# Altium integrated library Resistors$.IntLib: 1243 symbols (part 5 of 7)
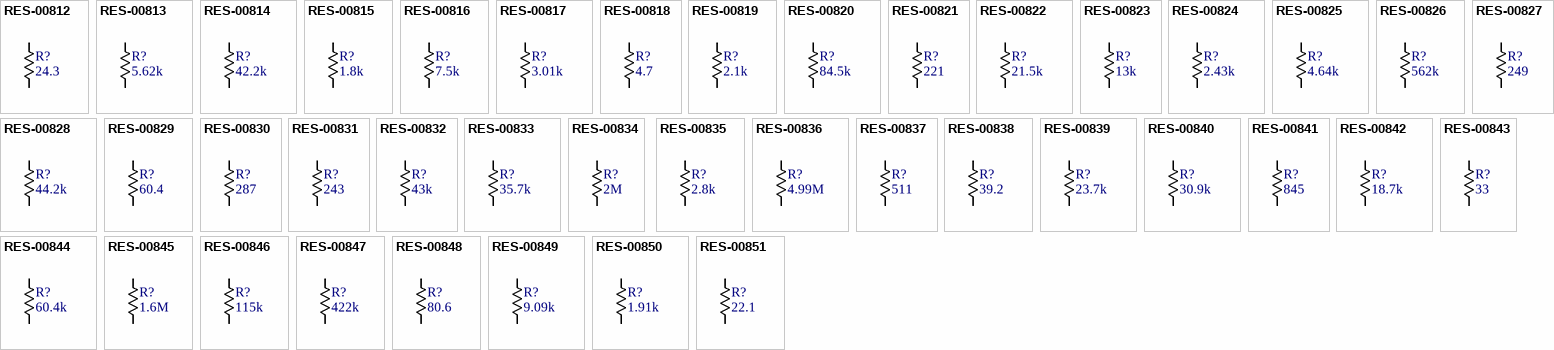
[diagram p36: symbols RES-00812 to RES-00851]

## RES-00824
designator R?, comment 2.43k
RES SMD 2.43K OHM 1% 1/10W 0603; Part Number: RES-00824; Manufacturer: Vishay Dale; Manufacturer PN: CRCW06032K43FKEA; Resistance: 2.43k; Tolerance: ±1%; Power Rating: 1/10W; Cost: 0.1
footprint chip_0603
pins: 1, 2

## RES-00825
designator R?, comment 4.64k
RES SMD 4.64K OHM 1% 1/10W 0603; Part Number: RES-00825; Manufacturer: Vishay Dale; Manufacturer PN: CRCW06034K64FKEA; Resistance: 4.64k; Tolerance: ±1%; Power Rating: 1/10W; Cost: 0.1
footprint chip_0603
pins: 1, 2

## RES-00826
designator R?, comment 562k
RES SMD 562K OHM 1% 1/10W 0603; Part Number: RES-00826; Manufacturer: Vishay Dale; Manufacturer PN: CRCW0603562KFKEA; Resistance: 562k; Tolerance: ±1%; Power Rating: 1/10W; Cost: 0.1
footprint chip_0603
pins: 1, 2

## RES-00827
designator R?, comment 249
RES SMD 249 OHM 1% 1/10W 0603; Part Number: RES-00827; Manufacturer: Vishay Dale; Manufacturer PN: CRCW0603249RFKEA; Resistance: 249; Tolerance: ±1%; Power Rating: 1/10W; Cost: 0.1
footprint chip_0603
pins: 1, 2

## RES-00828
designator R?, comment 44.2k
RES SMD 44.2K OHM 1% 1/10W 0603; Part Number: RES-00828; Manufacturer: Vishay Dale; Manufacturer PN: CRCW060344K2FKEA; Resistance: 44.2k; Tolerance: ±1%; Power Rating: 1/10W; Cost: 0.1
footprint chip_0603
pins: 1, 2

## RES-00829
designator R?, comment 60.4
RES SMD 60.4 OHM 1% 1/10W 0603; Part Number: RES-00829; Manufacturer: Vishay Dale; Manufacturer PN: CRCW060360R4FKEA; Resistance: 60.4; Tolerance: ±1%; Power Rating: 1/10W; Cost: 0.1
footprint chip_0603
pins: 1, 2

## RES-00830
designator R?, comment 287
RES SMD 287 OHM 1% 1/10W 0603; Part Number: RES-00830; Manufacturer: Vishay Dale; Manufacturer PN: CRCW0603287RFKEA; Resistance: 287; Tolerance: ±1%; Power Rating: 1/10W; Cost: 0.1
footprint chip_0603
pins: 1, 2

## RES-00831
designator R?, comment 243
RES SMD 243 OHM 1% 1/10W 0603; Part Number: RES-00831; Manufacturer: Vishay Dale; Manufacturer PN: CRCW0603243RFKEA; Resistance: 243; Tolerance: ±1%; Power Rating: 1/10W; Cost: 0.1
footprint chip_0603
pins: 1, 2

## RES-00832
designator R?, comment 43k
RES SMD 43K OHM 1% 1/10W 0603; Part Number: RES-00832; Manufacturer: Vishay Dale; Manufacturer PN: CRCW060343K0FKEA; Resistance: 43k; Tolerance: ±1%; Power Rating: 1/10W; Cost: 0.1
footprint chip_0603
pins: 1, 2

## RES-00833
designator R?, comment 35.7k
RES SMD 35.7K OHM 1% 1/10W 0603; Part Number: RES-00833; Manufacturer: Vishay Dale; Manufacturer PN: CRCW060335K7FKEA; Resistance: 35.7k; Tolerance: ±1%; Power Rating: 1/10W; Cost: 0.1
footprint chip_0603
pins: 1, 2

## RES-00834
designator R?, comment 2M
RES SMD 2M OHM 1% 1/10W 0603; Part Number: RES-00834; Manufacturer: Vishay Dale; Manufacturer PN: CRCW06032M00FKEA; Resistance: 2M; Tolerance: ±1%; Power Rating: 1/10W; Cost: 0.1
footprint chip_0603
pins: 1, 2

## RES-00835
designator R?, comment 2.8k
RES SMD 2.8K OHM 1% 1/10W 0603; Part Number: RES-00835; Manufacturer: Vishay Dale; Manufacturer PN: CRCW06032K80FKEA; Resistance: 2.8k; Tolerance: ±1%; Power Rating: 1/10W; Cost: 0.1
footprint chip_0603
pins: 1, 2

## RES-00836
designator R?, comment 4.99M
RES SMD 4.99M OHM 1% 1/10W 0603; Part Number: RES-00836; Manufacturer: Vishay Dale; Manufacturer PN: CRCW06034M99FKEA; Resistance: 4.99M; Tolerance: ±1%; Power Rating: 1/10W; Cost: 0.1
footprint chip_0603
pins: 1, 2

## RES-00837
designator R?, comment 511
RES SMD 511 OHM 1% 1/10W 0603; Part Number: RES-00837; Manufacturer: Vishay Dale; Manufacturer PN: CRCW0603511RFKEA; Resistance: 511; Tolerance: ±1%; Power Rating: 1/10W; Cost: 0.1
footprint chip_0603
pins: 1, 2

## RES-00838
designator R?, comment 39.2
RES SMD 39.2 OHM 1% 1/10W 0603; Part Number: RES-00838; Manufacturer: Vishay Dale; Manufacturer PN: CRCW060339R2FKEA; Resistance: 39.2; Tolerance: ±1%; Power Rating: 1/10W; Cost: 0.1
footprint chip_0603
pins: 1, 2

## RES-00839
designator R?, comment 23.7k
RES SMD 23.7K OHM 1% 1/10W 0603; Part Number: RES-00839; Manufacturer: Vishay Dale; Manufacturer PN: CRCW060323K7FKEA; Resistance: 23.7k; Tolerance: ±1%; Power Rating: 1/10W; Cost: 0.1
footprint chip_0603
pins: 1, 2

## RES-00840
designator R?, comment 30.9k
RES SMD 30.9K OHM 1% 1/10W 0603; Part Number: RES-00840; Manufacturer: Vishay Dale; Manufacturer PN: CRCW060330K9FKEA; Resistance: 30.9k; Tolerance: ±1%; Power Rating: 1/10W; Cost: 0.1
footprint chip_0603
pins: 1, 2

## RES-00841
designator R?, comment 845
RES SMD 845 OHM 1% 1/10W 0603; Part Number: RES-00841; Manufacturer: Vishay Dale; Manufacturer PN: CRCW0603845RFKEA; Resistance: 845; Tolerance: ±1%; Power Rating: 1/10W; Cost: 0.1
footprint chip_0603
pins: 1, 2

## RES-00842
designator R?, comment 18.7k
RES SMD 18.7K OHM 1% 1/10W 0603; Part Number: RES-00842; Manufacturer: Vishay Dale; Manufacturer PN: CRCW060318K7FKEA; Resistance: 18.7k; Tolerance: ±1%; Power Rating: 1/10W; Cost: 0.1
footprint chip_0603
pins: 1, 2

## RES-00843
designator R?, comment 33
RES SMD 33 OHM 1% 1/10W 0603; Part Number: RES-00843; Manufacturer: Vishay Dale; Manufacturer PN: CRCW060333R0FKEA; Resistance: 33; Tolerance: ±1%; Power Rating: 1/10W; Cost: 0.1
footprint chip_0603
pins: 1, 2

## RES-00844
designator R?, comment 60.4k
RES SMD 60.4K OHM 1% 1/10W 0603; Part Number: RES-00844; Manufacturer: Vishay Dale; Manufacturer PN: CRCW060360K4FKEA; Resistance: 60.4k; Tolerance: ±1%; Power Rating: 1/10W; Cost: 0.1
footprint chip_0603
pins: 1, 2

## RES-00845
designator R?, comment 1.6M
RES SMD 1.6M OHM 1% 1/10W 0603; Part Number: RES-00845; Manufacturer: Vishay Dale; Manufacturer PN: CRCW06031M60FKEA; Resistance: 1.6M; Tolerance: ±1%; Power Rating: 1/10W; Cost: 0.1
footprint chip_0603
pins: 1, 2

## RES-00846
designator R?, comment 115k
RES SMD 115K OHM 1% 1/10W 0603; Part Number: RES-00846; Manufacturer: Vishay Dale; Manufacturer PN: CRCW0603115KFKEA; Resistance: 115k; Tolerance: ±1%; Power Rating: 1/10W; Cost: 0.1
footprint chip_0603
pins: 1, 2

## RES-00847
designator R?, comment 422k
RES SMD 422K OHM 1% 1/10W 0603; Part Number: RES-00847; Manufacturer: Vishay Dale; Manufacturer PN: CRCW0603422KFKEA; Resistance: 422k; Tolerance: ±1%; Power Rating: 1/10W; Cost: 0.1
footprint chip_0603
pins: 1, 2

## RES-00848
designator R?, comment 80.6
RES SMD 80.6 OHM 1% 1/10W 0603; Part Number: RES-00848; Manufacturer: Vishay Dale; Manufacturer PN: CRCW060380R6FKEA; Resistance: 80.6; Tolerance: ±1%; Power Rating: 1/10W; Cost: 0.1
footprint chip_0603
pins: 1, 2

## RES-00849
designator R?, comment 9.09k
RES SMD 9.09K OHM 1% 1/10W 0603; Part Number: RES-00849; Manufacturer: Vishay Dale; Manufacturer PN: CRCW06039K09FKEA; Resistance: 9.09k; Tolerance: ±1%; Power Rating: 1/10W; Cost: 0.1
footprint chip_0603
pins: 1, 2

## RES-00850
designator R?, comment 1.91k
RES SMD 1.91K OHM 1% 1/10W 0603; Part Number: RES-00850; Manufacturer: Vishay Dale; Manufacturer PN: CRCW06031K91FKEA; Resistance: 1.91k; Tolerance: ±1%; Power Rating: 1/10W; Cost: 0.1
footprint chip_0603
pins: 1, 2

## RES-00851
designator R?, comment 22.1
RES SMD 22.1 OHM 1% 1/10W 0603; Part Number: RES-00851; Manufacturer: Vishay Dale; Manufacturer PN: CRCW060322R1FKEA; Resistance: 22.1; Tolerance: ±1%; Power Rating: 1/10W; Cost: 0.1
footprint chip_0603
pins: 1, 2

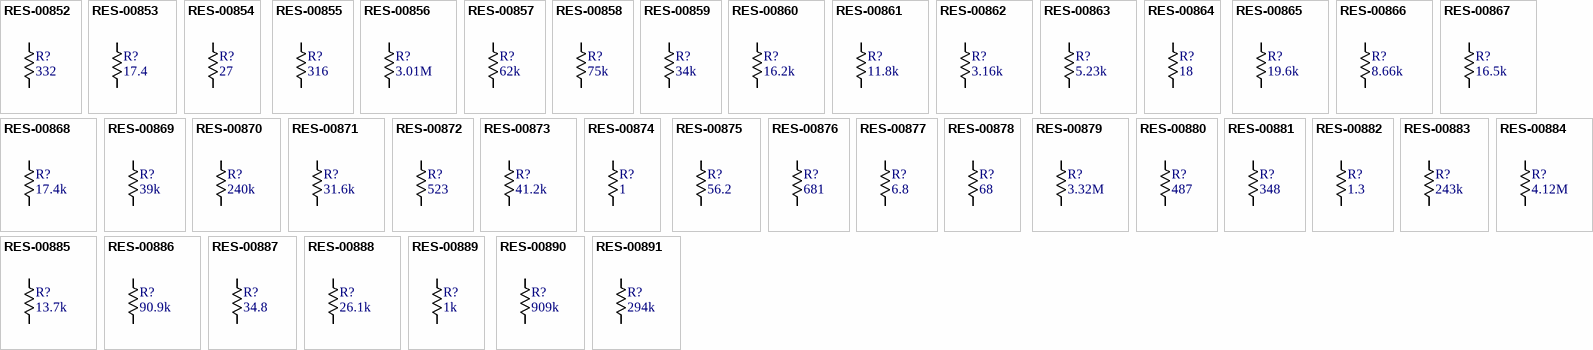
[diagram p23: symbols RES-00852 to RES-00891]

## RES-00852
designator R?, comment 332
RES SMD 332 OHM 1% 1/10W 0603; Part Number: RES-00852; Manufacturer: Vishay Dale; Manufacturer PN: CRCW0603332RFKEA; Resistance: 332; Tolerance: ±1%; Power Rating: 1/10W; Cost: 0.1
footprint chip_0603
pins: 1, 2

## RES-00853
designator R?, comment 17.4
RES SMD 17.4 OHM 1% 1/10W 0603; Part Number: RES-00853; Manufacturer: Vishay Dale; Manufacturer PN: CRCW060317R4FKEA; Resistance: 17.4; Tolerance: ±1%; Power Rating: 1/10W; Cost: 0.1
footprint chip_0603
pins: 1, 2

## RES-00854
designator R?, comment 27
RES SMD 27 OHM 1% 1/10W 0603; Part Number: RES-00854; Manufacturer: Vishay Dale; Manufacturer PN: CRCW060327R0FKEA; Resistance: 27; Tolerance: ±1%; Power Rating: 1/10W; Cost: 0.1
footprint chip_0603
pins: 1, 2

## RES-00855
designator R?, comment 316
RES SMD 316 OHM 1% 1/10W 0603; Part Number: RES-00855; Manufacturer: Vishay Dale; Manufacturer PN: CRCW0603316RFKEA; Resistance: 316; Tolerance: ±1%; Power Rating: 1/10W; Cost: 0.1
footprint chip_0603
pins: 1, 2

## RES-00856
designator R?, comment 3.01M
RES SMD 3.01M OHM 1% 1/10W 0603; Part Number: RES-00856; Manufacturer: Vishay Dale; Manufacturer PN: CRCW06033M01FKEA; Resistance: 3.01M; Tolerance: ±1%; Power Rating: 1/10W; Cost: 0.1
footprint chip_0603
pins: 1, 2

## RES-00857
designator R?, comment 62k
RES SMD 62K OHM 1% 1/10W 0603; Part Number: RES-00857; Manufacturer: Vishay Dale; Manufacturer PN: CRCW060362K0FKEA; Resistance: 62k; Tolerance: ±1%; Power Rating: 1/10W; Cost: 0.1
footprint chip_0603
pins: 1, 2

## RES-00858
designator R?, comment 75k
RES SMD 75K OHM 1% 1/10W 0603; Part Number: RES-00858; Manufacturer: Vishay Dale; Manufacturer PN: CRCW060375K0FKEA; Resistance: 75k; Tolerance: ±1%; Power Rating: 1/10W; Cost: 0.1
footprint chip_0603
pins: 1, 2

## RES-00859
designator R?, comment 34k
RES SMD 34K OHM 1% 1/10W 0603; Part Number: RES-00859; Manufacturer: Vishay Dale; Manufacturer PN: CRCW060334K0FKEA; Resistance: 34k; Tolerance: ±1%; Power Rating: 1/10W; Cost: 0.1
footprint chip_0603
pins: 1, 2

## RES-00860
designator R?, comment 16.2k
RES SMD 16.2K OHM 1% 1/10W 0603; Part Number: RES-00860; Manufacturer: Vishay Dale; Manufacturer PN: CRCW060316K2FKEA; Resistance: 16.2k; Tolerance: ±1%; Power Rating: 1/10W; Cost: 0.1
footprint chip_0603
pins: 1, 2

## RES-00861
designator R?, comment 11.8k
RES SMD 11.8K OHM 1% 1/10W 0603; Part Number: RES-00861; Manufacturer: Vishay Dale; Manufacturer PN: CRCW060311K8FKEA; Resistance: 11.8k; Tolerance: ±1%; Power Rating: 1/10W; Cost: 0.1
footprint chip_0603
pins: 1, 2

## RES-00862
designator R?, comment 3.16k
RES SMD 3.16K OHM 1% 1/10W 0603; Part Number: RES-00862; Manufacturer: Vishay Dale; Manufacturer PN: CRCW06033K16FKEA; Resistance: 3.16k; Tolerance: ±1%; Power Rating: 1/10W; Cost: 0.1
footprint chip_0603
pins: 1, 2

## RES-00863
designator R?, comment 5.23k
RES SMD 5.23K OHM 1% 1/10W 0603; Part Number: RES-00863; Manufacturer: Vishay Dale; Manufacturer PN: CRCW06035K23FKEA; Resistance: 5.23k; Tolerance: ±1%; Power Rating: 1/10W; Cost: 0.1
footprint chip_0603
pins: 1, 2

## RES-00864
designator R?, comment 18
RES SMD 18 OHM 1% 1/10W 0603; Part Number: RES-00864; Manufacturer: Vishay Dale; Manufacturer PN: CRCW060318R0FKEA; Resistance: 18; Tolerance: ±1%; Power Rating: 1/10W; Cost: 0.1
footprint chip_0603
pins: 1, 2

## RES-00865
designator R?, comment 19.6k
RES SMD 19.6K OHM 1% 1/10W 0603; Part Number: RES-00865; Manufacturer: Vishay Dale; Manufacturer PN: CRCW060319K6FKEA; Resistance: 19.6k; Tolerance: ±1%; Power Rating: 1/10W; Cost: 0.1
footprint chip_0603
pins: 1, 2

## RES-00866
designator R?, comment 8.66k
RES SMD 8.66K OHM 1% 1/10W 0603; Part Number: RES-00866; Manufacturer: Vishay Dale; Manufacturer PN: CRCW06038K66FKEA; Resistance: 8.66k; Tolerance: ±1%; Power Rating: 1/10W; Cost: 0.1
footprint chip_0603
pins: 1, 2

## RES-00867
designator R?, comment 16.5k
RES SMD 16.5K OHM 1% 1/10W 0603; Part Number: RES-00867; Manufacturer: Vishay Dale; Manufacturer PN: CRCW060316K5FKEA; Resistance: 16.5k; Tolerance: ±1%; Power Rating: 1/10W; Cost: 0.1
footprint chip_0603
pins: 1, 2

## RES-00868
designator R?, comment 17.4k
RES SMD 17.4K OHM 1% 1/10W 0603; Part Number: RES-00868; Manufacturer: Vishay Dale; Manufacturer PN: CRCW060317K4FKEA; Resistance: 17.4k; Tolerance: ±1%; Power Rating: 1/10W; Cost: 0.1
footprint chip_0603
pins: 1, 2

## RES-00869
designator R?, comment 39k
RES SMD 39K OHM 1% 1/10W 0603; Part Number: RES-00869; Manufacturer: Vishay Dale; Manufacturer PN: CRCW060339K0FKEA; Resistance: 39k; Tolerance: ±1%; Power Rating: 1/10W; Cost: 0.1
footprint chip_0603
pins: 1, 2

## RES-00870
designator R?, comment 240k
RES SMD 240K OHM 1% 1/10W 0603; Part Number: RES-00870; Manufacturer: Vishay Dale; Manufacturer PN: CRCW0603240KFKEA; Resistance: 240k; Tolerance: ±1%; Power Rating: 1/10W; Cost: 0.1
footprint chip_0603
pins: 1, 2

## RES-00871
designator R?, comment 31.6k
RES SMD 31.6K OHM 1% 1/10W 0603; Part Number: RES-00871; Manufacturer: Vishay Dale; Manufacturer PN: CRCW060331K6FKEA; Resistance: 31.6k; Tolerance: ±1%; Power Rating: 1/10W; Cost: 0.1
footprint chip_0603
pins: 1, 2

## RES-00872
designator R?, comment 523
RES SMD 523 OHM 1% 1/10W 0603; Part Number: RES-00872; Manufacturer: Vishay Dale; Manufacturer PN: CRCW0603523RFKEA; Resistance: 523; Tolerance: ±1%; Power Rating: 1/10W; Cost: 0.1
footprint chip_0603
pins: 1, 2

## RES-00873
designator R?, comment 41.2k
RES SMD 41.2K OHM 1% 1/10W 0603; Part Number: RES-00873; Manufacturer: Vishay Dale; Manufacturer PN: CRCW060341K2FKEA; Resistance: 41.2k; Tolerance: ±1%; Power Rating: 1/10W; Cost: 0.1
footprint chip_0603
pins: 1, 2

## RES-00874
designator R?, comment 1
RES SMD 1 OHM 1% 1/10W 0603; Part Number: RES-00874; Manufacturer: Vishay Dale; Manufacturer PN: CRCW06031R00FKEA; Resistance: 1; Tolerance: ±1%; Power Rating: 1/10W; Cost: 0.1
footprint chip_0603
pins: 1, 2

## RES-00875
designator R?, comment 56.2
RES SMD 56.2 OHM 1% 1/10W 0603; Part Number: RES-00875; Manufacturer: Vishay Dale; Manufacturer PN: CRCW060356R2FKEA; Resistance: 56.2; Tolerance: ±1%; Power Rating: 1/10W; Cost: 0.1
footprint chip_0603
pins: 1, 2

## RES-00876
designator R?, comment 681
RES SMD 681 OHM 1% 1/10W 0603; Part Number: RES-00876; Manufacturer: Vishay Dale; Manufacturer PN: CRCW0603681RFKEA; Resistance: 681; Tolerance: ±1%; Power Rating: 1/10W; Cost: 0.1
footprint chip_0603
pins: 1, 2

## RES-00877
designator R?, comment 6.8
RES SMD 6.8 OHM 1% 1/10W 0603; Part Number: RES-00877; Manufacturer: Vishay Dale; Manufacturer PN: CRCW06036R80FKEA; Resistance: 6.8; Tolerance: ±1%; Power Rating: 1/10W; Cost: 0.1
footprint chip_0603
pins: 1, 2

## RES-00878
designator R?, comment 68
RES SMD 68 OHM 1% 1/10W 0603; Part Number: RES-00878; Manufacturer: Vishay Dale; Manufacturer PN: CRCW060368R0FKEA; Resistance: 68; Tolerance: ±1%; Power Rating: 1/10W; Cost: 0.1
footprint chip_0603
pins: 1, 2

## RES-00879
designator R?, comment 3.32M
RES SMD 3.32M OHM 1% 1/10W 0603; Part Number: RES-00879; Manufacturer: Vishay Dale; Manufacturer PN: CRCW06033M32FKEA; Resistance: 3.32M; Tolerance: ±1%; Power Rating: 1/10W; Cost: 0.1
footprint chip_0603
pins: 1, 2

## RES-00880
designator R?, comment 487
RES SMD 487 OHM 1% 1/10W 0603; Part Number: RES-00880; Manufacturer: Vishay Dale; Manufacturer PN: CRCW0603487RFKEA; Resistance: 487; Tolerance: ±1%; Power Rating: 1/10W; Cost: 0.1
footprint chip_0603
pins: 1, 2

## RES-00881
designator R?, comment 348
RES SMD 348 OHM 1% 1/10W 0603; Part Number: RES-00881; Manufacturer: Vishay Dale; Manufacturer PN: CRCW0603348RFKEA; Resistance: 348; Tolerance: ±1%; Power Rating: 1/10W; Cost: 0.1
footprint chip_0603
pins: 1, 2

## RES-00882
designator R?, comment 1.3
RES SMD 1.3 OHM 1% 1/10W 0603; Part Number: RES-00882; Manufacturer: Vishay Dale; Manufacturer PN: CRCW06031R30FKEA; Resistance: 1.3; Tolerance: ±1%; Power Rating: 1/10W; Cost: 0.1
footprint chip_0603
pins: 1, 2

## RES-00883
designator R?, comment 243k
RES SMD 243K OHM 1% 1/10W 0603; Part Number: RES-00883; Manufacturer: Vishay Dale; Manufacturer PN: CRCW0603243KFKEA; Resistance: 243k; Tolerance: ±1%; Power Rating: 1/10W; Cost: 0.1
footprint chip_0603
pins: 1, 2

## RES-00884
designator R?, comment 4.12M
RES SMD 4.12M OHM 1% 1/10W 0603; Part Number: RES-00884; Manufacturer: Vishay Dale; Manufacturer PN: CRCW06034M12FKEA; Resistance: 4.12M; Tolerance: ±1%; Power Rating: 1/10W; Cost: 0.1
footprint chip_0603
pins: 1, 2

## RES-00885
designator R?, comment 13.7k
RES SMD 13.7K OHM 1% 1/10W 0603; Part Number: RES-00885; Manufacturer: Vishay Dale; Manufacturer PN: CRCW060313K7FKEA; Resistance: 13.7k; Tolerance: ±1%; Power Rating: 1/10W; Cost: 0.1
footprint chip_0603
pins: 1, 2

## RES-00886
designator R?, comment 90.9k
RES SMD 90.9K OHM 1% 1/10W 0603; Part Number: RES-00886; Manufacturer: Vishay Dale; Manufacturer PN: CRCW060390K9FKEA; Resistance: 90.9k; Tolerance: ±1%; Power Rating: 1/10W; Cost: 0.1
footprint chip_0603
pins: 1, 2

## RES-00887
designator R?, comment 34.8
RES SMD 34.8 OHM 1% 1/10W 0603; Part Number: RES-00887; Manufacturer: Vishay Dale; Manufacturer PN: CRCW060334R8FKEA; Resistance: 34.8; Tolerance: ±1%; Power Rating: 1/10W; Cost: 0.1
footprint chip_0603
pins: 1, 2

## RES-00888
designator R?, comment 26.1k
RES SMD 26.1K OHM 1% 1/10W 0603; Part Number: RES-00888; Manufacturer: Vishay Dale; Manufacturer PN: CRCW060326K1FKEA; Resistance: 26.1k; Tolerance: ±1%; Power Rating: 1/10W; Cost: 0.1
footprint chip_0603
pins: 1, 2

## RES-00889
designator R?, comment 1k
RES SMD 1K OHM 1% 1/10W 0603; Part Number: RES-00889; Manufacturer: Vishay Dale; Manufacturer PN: CRCW06031K00FKTA; Resistance: 1k; Tolerance: ±1%; Power Rating: 1/10W; Cost: 0.1
footprint chip_0603
pins: 1, 2

## RES-00890
designator R?, comment 909k
RES SMD 909K OHM 1% 1/10W 0603; Part Number: RES-00890; Manufacturer: Vishay Dale; Manufacturer PN: CRCW0603909KFKEA; Resistance: 909k; Tolerance: ±1%; Power Rating: 1/10W; Cost: 0.1
footprint chip_0603
pins: 1, 2

## RES-00891
designator R?, comment 294k
RES SMD 294K OHM 1% 1/10W 0603; Part Number: RES-00891; Manufacturer: Vishay Dale; Manufacturer PN: CRCW0603294KFKEA; Resistance: 294k; Tolerance: ±1%; Power Rating: 1/10W; Cost: 0.1
footprint chip_0603
pins: 1, 2

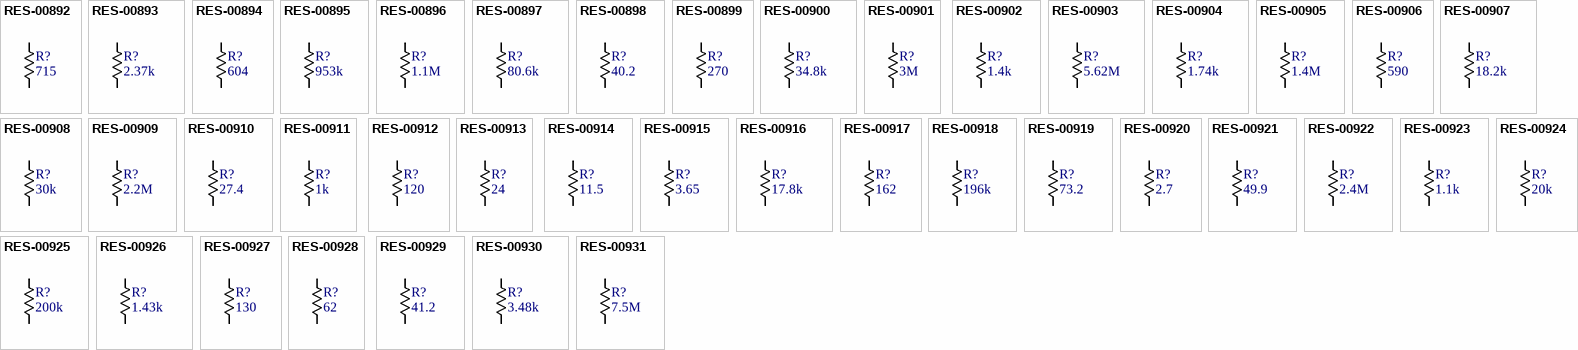
[diagram p24: symbols RES-00892 to RES-00931]

## RES-00892
designator R?, comment 715
RES SMD 715 OHM 1% 1/10W 0603; Part Number: RES-00892; Manufacturer: Vishay Dale; Manufacturer PN: CRCW0603715RFKEA; Resistance: 715; Tolerance: ±1%; Power Rating: 1/10W; Cost: 0.1
footprint chip_0603
pins: 1, 2

## RES-00893
designator R?, comment 2.37k
RES SMD 2.37K OHM 1% 1/10W 0603; Part Number: RES-00893; Manufacturer: Vishay Dale; Manufacturer PN: CRCW06032K37FKEA; Resistance: 2.37k; Tolerance: ±1%; Power Rating: 1/10W; Cost: 0.1
footprint chip_0603
pins: 1, 2

## RES-00894
designator R?, comment 604
RES SMD 604 OHM 1% 1/10W 0603; Part Number: RES-00894; Manufacturer: Vishay Dale; Manufacturer PN: CRCW0603604RFKEA; Resistance: 604; Tolerance: ±1%; Power Rating: 1/10W; Cost: 0.1
footprint chip_0603
pins: 1, 2

## RES-00895
designator R?, comment 953k
RES SMD 953K OHM 1% 1/10W 0603; Part Number: RES-00895; Manufacturer: Vishay Dale; Manufacturer PN: CRCW0603953KFKEA; Resistance: 953k; Tolerance: ±1%; Power Rating: 1/10W; Cost: 0.1
footprint chip_0603
pins: 1, 2

## RES-00896
designator R?, comment 1.1M
RES SMD 1.1M OHM 1% 1/10W 0603; Part Number: RES-00896; Manufacturer: Vishay Dale; Manufacturer PN: CRCW06031M10FKEA; Resistance: 1.1M; Tolerance: ±1%; Power Rating: 1/10W; Cost: 0.1
footprint chip_0603
pins: 1, 2

## RES-00897
designator R?, comment 80.6k
RES SMD 80.6K OHM 1% 1/10W 0603; Part Number: RES-00897; Manufacturer: Vishay Dale; Manufacturer PN: CRCW060380K6FKEA; Resistance: 80.6k; Tolerance: ±1%; Power Rating: 1/10W; Cost: 0.1
footprint chip_0603
pins: 1, 2

## RES-00898
designator R?, comment 40.2
RES SMD 40.2 OHM 1% 1/10W 0603; Part Number: RES-00898; Manufacturer: Vishay Dale; Manufacturer PN: CRCW060340R2FKEA; Resistance: 40.2; Tolerance: ±1%; Power Rating: 1/10W; Cost: 0.1
footprint chip_0603
pins: 1, 2

## RES-00899
designator R?, comment 270
RES SMD 270 OHM 1% 1/10W 0603; Part Number: RES-00899; Manufacturer: Vishay Dale; Manufacturer PN: CRCW0603270RFKEA; Resistance: 270; Tolerance: ±1%; Power Rating: 1/10W; Cost: 0.1
footprint chip_0603
pins: 1, 2

## RES-00900
designator R?, comment 34.8k
RES SMD 34.8K OHM 1% 1/10W 0603; Part Number: RES-00900; Manufacturer: Vishay Dale; Manufacturer PN: CRCW060334K8FKEA; Resistance: 34.8k; Tolerance: ±1%; Power Rating: 1/10W; Cost: 0.1
footprint chip_0603
pins: 1, 2

## RES-00901
designator R?, comment 3M
RES SMD 3M OHM 1% 1/10W 0603; Part Number: RES-00901; Manufacturer: Vishay Dale; Manufacturer PN: CRCW06033M00FKEA; Resistance: 3M; Tolerance: ±1%; Power Rating: 1/10W; Cost: 0.1
footprint chip_0603
pins: 1, 2

## RES-00902
designator R?, comment 1.4k
RES SMD 1.4K OHM 1% 1/10W 0603; Part Number: RES-00902; Manufacturer: Vishay Dale; Manufacturer PN: CRCW06031K40FKEA; Resistance: 1.4k; Tolerance: ±1%; Power Rating: 1/10W; Cost: 0.1
footprint chip_0603
pins: 1, 2

## RES-00903
designator R?, comment 5.62M
RES SMD 5.62M OHM 1% 1/10W 0603; Part Number: RES-00903; Manufacturer: Vishay Dale; Manufacturer PN: CRCW06035M62FKEA; Resistance: 5.62M; Tolerance: ±1%; Power Rating: 1/10W; Cost: 0.1
footprint chip_0603
pins: 1, 2

## RES-00904
designator R?, comment 1.74k
RES SMD 1.74K OHM 1% 1/10W 0603; Part Number: RES-00904; Manufacturer: Vishay Dale; Manufacturer PN: CRCW06031K74FKEA; Resistance: 1.74k; Tolerance: ±1%; Power Rating: 1/10W; Cost: 0.1
footprint chip_0603
pins: 1, 2

## RES-00905
designator R?, comment 1.4M
RES SMD 1.4M OHM 1% 1/10W 0603; Part Number: RES-00905; Manufacturer: Vishay Dale; Manufacturer PN: CRCW06031M40FKEA; Resistance: 1.4M; Tolerance: ±1%; Power Rating: 1/10W; Cost: 0.1
footprint chip_0603
pins: 1, 2

## RES-00906
designator R?, comment 590
RES SMD 590 OHM 1% 1/10W 0603; Part Number: RES-00906; Manufacturer: Vishay Dale; Manufacturer PN: CRCW0603590RFKEA; Resistance: 590; Tolerance: ±1%; Power Rating: 1/10W; Cost: 0.1
footprint chip_0603
pins: 1, 2

## RES-00907
designator R?, comment 18.2k
RES SMD 18.2K OHM 1% 1/10W 0603; Part Number: RES-00907; Manufacturer: Vishay Dale; Manufacturer PN: CRCW060318K2FKEA; Resistance: 18.2k; Tolerance: ±1%; Power Rating: 1/10W; Cost: 0.1
footprint chip_0603
pins: 1, 2

## RES-00908
designator R?, comment 30k
RES SMD 30K OHM 1% 1/10W 0603; Part Number: RES-00908; Manufacturer: Vishay Dale; Manufacturer PN: CRCW060330K0FKEA; Resistance: 30k; Tolerance: ±1%; Power Rating: 1/10W; Cost: 0.1
footprint chip_0603
pins: 1, 2

## RES-00909
designator R?, comment 2.2M
RES SMD 2.2M OHM 1% 1/10W 0603; Part Number: RES-00909; Manufacturer: Vishay Dale; Manufacturer PN: CRCW06032M20FKEA; Resistance: 2.2M; Tolerance: ±1%; Power Rating: 1/10W; Cost: 0.1
footprint chip_0603
pins: 1, 2

## RES-00910
designator R?, comment 27.4
RES SMD 27.4 OHM 1% 1/10W 0603; Part Number: RES-00910; Manufacturer: Vishay Dale; Manufacturer PN: CRCW060327R4FKEA; Resistance: 27.4; Tolerance: ±1%; Power Rating: 1/10W; Cost: 0.1
footprint chip_0603
pins: 1, 2

## RES-00911
designator R?, comment 1k
RES SMD 1K OHM 1% 1/10W 0603; Part Number: RES-00911; Manufacturer: Vishay Dale; Manufacturer PN: CRCW06031K00FKEC; Resistance: 1k; Tolerance: ±1%; Power Rating: 1/10W; Cost: 0.1
footprint chip_0603
pins: 1, 2

## RES-00912
designator R?, comment 120
RES SMD 120 OHM 1% 1/10W 0603; Part Number: RES-00912; Manufacturer: Vishay Dale; Manufacturer PN: CRCW0603120RFKEA; Resistance: 120; Tolerance: ±1%; Power Rating: 1/10W; Cost: 0.1
footprint chip_0603
pins: 1, 2

## RES-00913
designator R?, comment 24
RES SMD 24 OHM 1% 1/10W 0603; Part Number: RES-00913; Manufacturer: Vishay Dale; Manufacturer PN: CRCW060324R0FKEA; Resistance: 24; Tolerance: ±1%; Power Rating: 1/10W; Cost: 0.1
footprint chip_0603
pins: 1, 2

## RES-00914
designator R?, comment 11.5
RES SMD 11.5 OHM 1% 1/10W 0603; Part Number: RES-00914; Manufacturer: Vishay Dale; Manufacturer PN: CRCW060311R5FKEA; Resistance: 11.5; Tolerance: ±1%; Power Rating: 1/10W; Cost: 0.1
footprint chip_0603
pins: 1, 2

## RES-00915
designator R?, comment 3.65
RES SMD 3.65 OHM 1% 1/10W 0603; Part Number: RES-00915; Manufacturer: Vishay Dale; Manufacturer PN: CRCW06033R65FKEA; Resistance: 3.65; Tolerance: ±1%; Power Rating: 1/10W; Cost: 0.1
footprint chip_0603
pins: 1, 2

## RES-00916
designator R?, comment 17.8k
RES SMD 17.8K OHM 1% 1/10W 0603; Part Number: RES-00916; Manufacturer: Vishay Dale; Manufacturer PN: CRCW060317K8FKEA; Resistance: 17.8k; Tolerance: ±1%; Power Rating: 1/10W; Cost: 0.1
footprint chip_0603
pins: 1, 2

## RES-00917
designator R?, comment 162
RES SMD 162 OHM 1% 1/10W 0603; Part Number: RES-00917; Manufacturer: Vishay Dale; Manufacturer PN: CRCW0603162RFKEA; Resistance: 162; Tolerance: ±1%; Power Rating: 1/10W; Cost: 0.1
footprint chip_0603
pins: 1, 2

## RES-00918
designator R?, comment 196k
RES SMD 196K OHM 1% 1/10W 0603; Part Number: RES-00918; Manufacturer: Vishay Dale; Manufacturer PN: CRCW0603196KFKEA; Resistance: 196k; Tolerance: ±1%; Power Rating: 1/10W; Cost: 0.1
footprint chip_0603
pins: 1, 2

## RES-00919
designator R?, comment 73.2
RES SMD 73.2 OHM 1% 1/10W 0603; Part Number: RES-00919; Manufacturer: Vishay Dale; Manufacturer PN: CRCW060373R2FKEA; Resistance: 73.2; Tolerance: ±1%; Power Rating: 1/10W; Cost: 0.1
footprint chip_0603
pins: 1, 2

## RES-00920
designator R?, comment 2.7
RES SMD 2.7 OHM 1% 1/10W 0603; Part Number: RES-00920; Manufacturer: Vishay Dale; Manufacturer PN: CRCW06032R70FKEA; Resistance: 2.7; Tolerance: ±1%; Power Rating: 1/10W; Cost: 0.1
footprint chip_0603
pins: 1, 2

## RES-00921
designator R?, comment 49.9
RES SMD 49.9 OHM 1% 1/10W 0603; Part Number: RES-00921; Manufacturer: Vishay Dale; Manufacturer PN: CRCW060349R9FKTA; Resistance: 49.9; Tolerance: ±1%; Power Rating: 1/10W; Cost: 0.1
footprint chip_0603
pins: 1, 2

## RES-00922
designator R?, comment 2.4M
RES SMD 2.4M OHM 1% 1/10W 0603; Part Number: RES-00922; Manufacturer: Vishay Dale; Manufacturer PN: CRCW06032M40FKEA; Resistance: 2.4M; Tolerance: ±1%; Power Rating: 1/10W; Cost: 0.1
footprint chip_0603
pins: 1, 2

## RES-00923
designator R?, comment 1.1k
RES SMD 1.1K OHM 1% 1/10W 0603; Part Number: RES-00923; Manufacturer: Vishay Dale; Manufacturer PN: CRCW06031K10FKEB; Resistance: 1.1k; Tolerance: ±1%; Power Rating: 1/10W; Cost: 0.1
footprint chip_0603
pins: 1, 2

## RES-00924
designator R?, comment 20k
RES SMD 20K OHM 1% 1/10W 0603; Part Number: RES-00924; Manufacturer: Vishay Dale; Manufacturer PN: CRCW060320K0FKEC; Resistance: 20k; Tolerance: ±1%; Power Rating: 1/10W; Cost: 0.1
footprint chip_0603
pins: 1, 2

## RES-00925
designator R?, comment 200k
RES SMD 200K OHM 1% 1/10W 0603; Part Number: RES-00925; Manufacturer: Vishay Dale; Manufacturer PN: CRCW0603200KFKEB; Resistance: 200k; Tolerance: ±1%; Power Rating: 1/10W; Cost: 0.1
footprint chip_0603
pins: 1, 2

## RES-00926
designator R?, comment 1.43k
RES SMD 1.43K OHM 1% 1/10W 0603; Part Number: RES-00926; Manufacturer: Vishay Dale; Manufacturer PN: CRCW06031K43FKEA; Resistance: 1.43k; Tolerance: ±1%; Power Rating: 1/10W; Cost: 0.1
footprint chip_0603
pins: 1, 2

## RES-00927
designator R?, comment 130
RES SMD 130 OHM 1% 1/10W 0603; Part Number: RES-00927; Manufacturer: Vishay Dale; Manufacturer PN: CRCW0603130RFKEA; Resistance: 130; Tolerance: ±1%; Power Rating: 1/10W; Cost: 0.1
footprint chip_0603
pins: 1, 2

## RES-00928
designator R?, comment 62
RES SMD 62 OHM 1% 1/10W 0603; Part Number: RES-00928; Manufacturer: Vishay Dale; Manufacturer PN: CRCW060362R0FKEA; Resistance: 62; Tolerance: ±1%; Power Rating: 1/10W; Cost: 0.1
footprint chip_0603
pins: 1, 2

## RES-00929
designator R?, comment 41.2
RES SMD 41.2 OHM 1% 1/10W 0603; Part Number: RES-00929; Manufacturer: Vishay Dale; Manufacturer PN: CRCW060341R2FKEA; Resistance: 41.2; Tolerance: ±1%; Power Rating: 1/10W; Cost: 0.1
footprint chip_0603
pins: 1, 2

## RES-00930
designator R?, comment 3.48k
RES SMD 3.48K OHM 1% 1/10W 0603; Part Number: RES-00930; Manufacturer: Vishay Dale; Manufacturer PN: CRCW06033K48FKEA; Resistance: 3.48k; Tolerance: ±1%; Power Rating: 1/10W; Cost: 0.1
footprint chip_0603
pins: 1, 2

## RES-00931
designator R?, comment 7.5M
RES SMD 7.5M OHM 1% 1/10W 0603; Part Number: RES-00931; Manufacturer: Vishay Dale; Manufacturer PN: CRCW06037M50FKEA; Resistance: 7.5M; Tolerance: ±1%; Power Rating: 1/10W; Cost: 0.1
footprint chip_0603
pins: 1, 2

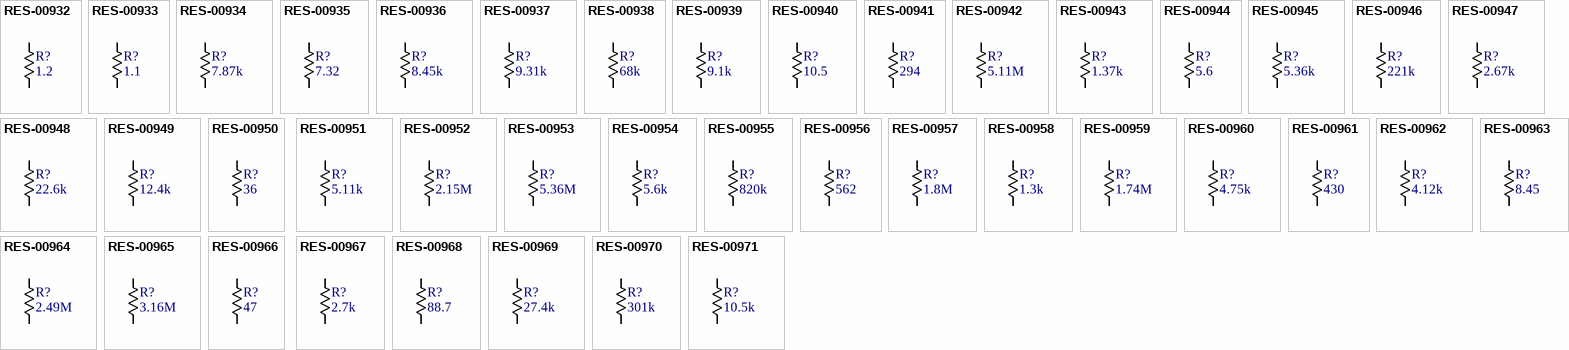
[diagram p25: symbols RES-00932 to RES-00971]

## RES-00932
designator R?, comment 1.2
RES SMD 1.2 OHM 1% 1/10W 0603; Part Number: RES-00932; Manufacturer: Vishay Dale; Manufacturer PN: CRCW06031R20FKEA; Resistance: 1.2; Tolerance: ±1%; Power Rating: 1/10W; Cost: 0.1
footprint chip_0603
pins: 1, 2

## RES-00933
designator R?, comment 1.1
RES SMD 1.1 OHM 1% 1/10W 0603; Part Number: RES-00933; Manufacturer: Vishay Dale; Manufacturer PN: CRCW06031R10FKEA; Resistance: 1.1; Tolerance: ±1%; Power Rating: 1/10W; Cost: 0.1
footprint chip_0603
pins: 1, 2

## RES-00934
designator R?, comment 7.87k
RES SMD 7.87K OHM 1% 1/10W 0603; Part Number: RES-00934; Manufacturer: Vishay Dale; Manufacturer PN: CRCW06037K87FKEA; Resistance: 7.87k; Tolerance: ±1%; Power Rating: 1/10W; Cost: 0.1
footprint chip_0603
pins: 1, 2

## RES-00935
designator R?, comment 7.32
RES SMD 7.32 OHM 1% 1/10W 0603; Part Number: RES-00935; Manufacturer: Vishay Dale; Manufacturer PN: CRCW06037R32FKEA; Resistance: 7.32; Tolerance: ±1%; Power Rating: 1/10W; Cost: 0.1
footprint chip_0603
pins: 1, 2

## RES-00936
designator R?, comment 8.45k
RES SMD 8.45K OHM 1% 1/10W 0603; Part Number: RES-00936; Manufacturer: Vishay Dale; Manufacturer PN: CRCW06038K45FKEA; Resistance: 8.45k; Tolerance: ±1%; Power Rating: 1/10W; Cost: 0.1
footprint chip_0603
pins: 1, 2

## RES-00937
designator R?, comment 9.31k
RES SMD 9.31K OHM 1% 1/10W 0603; Part Number: RES-00937; Manufacturer: Vishay Dale; Manufacturer PN: CRCW06039K31FKEA; Resistance: 9.31k; Tolerance: ±1%; Power Rating: 1/10W; Cost: 0.1
footprint chip_0603
pins: 1, 2

## RES-00938
designator R?, comment 68k
RES SMD 68K OHM 1% 1/10W 0603; Part Number: RES-00938; Manufacturer: Vishay Dale; Manufacturer PN: CRCW060368K0FKEA; Resistance: 68k; Tolerance: ±1%; Power Rating: 1/10W; Cost: 0.1
footprint chip_0603
pins: 1, 2

## RES-00939
designator R?, comment 9.1k
RES SMD 9.1K OHM 1% 1/10W 0603; Part Number: RES-00939; Manufacturer: Vishay Dale; Manufacturer PN: CRCW06039K10FKEA; Resistance: 9.1k; Tolerance: ±1%; Power Rating: 1/10W; Cost: 0.1
footprint chip_0603
pins: 1, 2

## RES-00940
designator R?, comment 10.5
RES SMD 10.5 OHM 1% 1/10W 0603; Part Number: RES-00940; Manufacturer: Vishay Dale; Manufacturer PN: CRCW060310R5FKEA; Resistance: 10.5; Tolerance: ±1%; Power Rating: 1/10W; Cost: 0.1
footprint chip_0603
pins: 1, 2

## RES-00941
designator R?, comment 294
RES SMD 294 OHM 1% 1/10W 0603; Part Number: RES-00941; Manufacturer: Vishay Dale; Manufacturer PN: CRCW0603294RFKEA; Resistance: 294; Tolerance: ±1%; Power Rating: 1/10W; Cost: 0.1
footprint chip_0603
pins: 1, 2

## RES-00942
designator R?, comment 5.11M
RES SMD 5.11M OHM 1% 1/10W 0603; Part Number: RES-00942; Manufacturer: Vishay Dale; Manufacturer PN: CRCW06035M11FKEA; Resistance: 5.11M; Tolerance: ±1%; Power Rating: 1/10W; Cost: 0.1
footprint chip_0603
pins: 1, 2

## RES-00943
designator R?, comment 1.37k
RES SMD 1.37K OHM 1% 1/10W 0603; Part Number: RES-00943; Manufacturer: Vishay Dale; Manufacturer PN: CRCW06031K37FKEA; Resistance: 1.37k; Tolerance: ±1%; Power Rating: 1/10W; Cost: 0.1
footprint chip_0603
pins: 1, 2

## RES-00944
designator R?, comment 5.6
RES SMD 5.6 OHM 1% 1/10W 0603; Part Number: RES-00944; Manufacturer: Vishay Dale; Manufacturer PN: CRCW06035R60FKEA; Resistance: 5.6; Tolerance: ±1%; Power Rating: 1/10W; Cost: 0.1
footprint chip_0603
pins: 1, 2

## RES-00945
designator R?, comment 5.36k
RES SMD 5.36K OHM 1% 1/10W 0603; Part Number: RES-00945; Manufacturer: Vishay Dale; Manufacturer PN: CRCW06035K36FKEA; Resistance: 5.36k; Tolerance: ±1%; Power Rating: 1/10W; Cost: 0.1
footprint chip_0603
pins: 1, 2

## RES-00946
designator R?, comment 221k
RES SMD 221K OHM 1% 1/10W 0603; Part Number: RES-00946; Manufacturer: Vishay Dale; Manufacturer PN: CRCW0603221KFKEB; Resistance: 221k; Tolerance: ±1%; Power Rating: 1/10W; Cost: 0.1
footprint chip_0603
pins: 1, 2

## RES-00947
designator R?, comment 2.67k
RES SMD 2.67K OHM 1% 1/10W 0603; Part Number: RES-00947; Manufacturer: Vishay Dale; Manufacturer PN: CRCW06032K67FKEA; Resistance: 2.67k; Tolerance: ±1%; Power Rating: 1/10W; Cost: 0.1
footprint chip_0603
pins: 1, 2

## RES-00948
designator R?, comment 22.6k
RES SMD 22.6K OHM 1% 1/10W 0603; Part Number: RES-00948; Manufacturer: Vishay Dale; Manufacturer PN: CRCW060322K6FKEA; Resistance: 22.6k; Tolerance: ±1%; Power Rating: 1/10W; Cost: 0.1
footprint chip_0603
pins: 1, 2

## RES-00949
designator R?, comment 12.4k
RES SMD 12.4K OHM 1% 1/10W 0603; Part Number: RES-00949; Manufacturer: Vishay Dale; Manufacturer PN: CRCW060312K4FKEB; Resistance: 12.4k; Tolerance: ±1%; Power Rating: 1/10W; Cost: 0.1
footprint chip_0603
pins: 1, 2

## RES-00950
designator R?, comment 36
RES SMD 36 OHM 1% 1/10W 0603; Part Number: RES-00950; Manufacturer: Vishay Dale; Manufacturer PN: CRCW060336R0FKEA; Resistance: 36; Tolerance: ±1%; Power Rating: 1/10W; Cost: 0.1
footprint chip_0603
pins: 1, 2

## RES-00951
designator R?, comment 5.11k
RES SMD 5.11K OHM 1% 1/10W 0603; Part Number: RES-00951; Manufacturer: Vishay Dale; Manufacturer PN: CRCW06035K11FKEA; Resistance: 5.11k; Tolerance: ±1%; Power Rating: 1/10W; Cost: 0.1
footprint chip_0603
pins: 1, 2

## RES-00952
designator R?, comment 2.15M
RES SMD 2.15M OHM 1% 1/10W 0603; Part Number: RES-00952; Manufacturer: Vishay Dale; Manufacturer PN: CRCW06032M15FKEA; Resistance: 2.15M; Tolerance: ±1%; Power Rating: 1/10W; Cost: 0.1
footprint chip_0603
pins: 1, 2

## RES-00953
designator R?, comment 5.36M
RES SMD 5.36M OHM 1% 1/10W 0603; Part Number: RES-00953; Manufacturer: Vishay Dale; Manufacturer PN: CRCW06035M36FKEA; Resistance: 5.36M; Tolerance: ±1%; Power Rating: 1/10W; Cost: 0.1
footprint chip_0603
pins: 1, 2

## RES-00954
designator R?, comment 5.6k
RES SMD 5.6K OHM 1% 1/10W 0603; Part Number: RES-00954; Manufacturer: Vishay Dale; Manufacturer PN: CRCW06035K60FKEA; Resistance: 5.6k; Tolerance: ±1%; Power Rating: 1/10W; Cost: 0.1
footprint chip_0603
pins: 1, 2

## RES-00955
designator R?, comment 820k
RES SMD 820K OHM 1% 1/10W 0603; Part Number: RES-00955; Manufacturer: Vishay Dale; Manufacturer PN: CRCW0603820KFKEA; Resistance: 820k; Tolerance: ±1%; Power Rating: 1/10W; Cost: 0.1
footprint chip_0603
pins: 1, 2

## RES-00956
designator R?, comment 562
RES SMD 562 OHM 1% 1/10W 0603; Part Number: RES-00956; Manufacturer: Vishay Dale; Manufacturer PN: CRCW0603562RFKEA; Resistance: 562; Tolerance: ±1%; Power Rating: 1/10W; Cost: 0.1
footprint chip_0603
pins: 1, 2

## RES-00957
designator R?, comment 1.8M
RES SMD 1.8M OHM 1% 1/10W 0603; Part Number: RES-00957; Manufacturer: Vishay Dale; Manufacturer PN: CRCW06031M80FKEA; Resistance: 1.8M; Tolerance: ±1%; Power Rating: 1/10W; Cost: 0.1
footprint chip_0603
pins: 1, 2

## RES-00958
designator R?, comment 1.3k
RES SMD 1.3K OHM 1% 1/10W 0603; Part Number: RES-00958; Manufacturer: Vishay Dale; Manufacturer PN: CRCW06031K30FKEA; Resistance: 1.3k; Tolerance: ±1%; Power Rating: 1/10W; Cost: 0.1
footprint chip_0603
pins: 1, 2

## RES-00959
designator R?, comment 1.74M
RES SMD 1.74M OHM 1% 1/10W 0603; Part Number: RES-00959; Manufacturer: Vishay Dale; Manufacturer PN: CRCW06031M74FKEA; Resistance: 1.74M; Tolerance: ±1%; Power Rating: 1/10W; Cost: 0.1
footprint chip_0603
pins: 1, 2

## RES-00960
designator R?, comment 4.75k
RES SMD 4.75K OHM 1% 1/10W 0603; Part Number: RES-00960; Manufacturer: Vishay Dale; Manufacturer PN: CRCW06034K75FKEA; Resistance: 4.75k; Tolerance: ±1%; Power Rating: 1/10W; Cost: 0.1
footprint chip_0603
pins: 1, 2

## RES-00961
designator R?, comment 430
RES SMD 430 OHM 1% 1/10W 0603; Part Number: RES-00961; Manufacturer: Vishay Dale; Manufacturer PN: CRCW0603430RFKEA; Resistance: 430; Tolerance: ±1%; Power Rating: 1/10W; Cost: 0.1
footprint chip_0603
pins: 1, 2

## RES-00962
designator R?, comment 4.12k
RES SMD 4.12K OHM 1% 1/10W 0603; Part Number: RES-00962; Manufacturer: Vishay Dale; Manufacturer PN: CRCW06034K12FKEA; Resistance: 4.12k; Tolerance: ±1%; Power Rating: 1/10W; Cost: 0.1
footprint chip_0603
pins: 1, 2

## RES-00963
designator R?, comment 8.45
RES SMD 8.45 OHM 1% 1/10W 0603; Part Number: RES-00963; Manufacturer: Vishay Dale; Manufacturer PN: CRCW06038R45FKEA; Resistance: 8.45; Tolerance: ±1%; Power Rating: 1/10W; Cost: 0.1
footprint chip_0603
pins: 1, 2

## RES-00964
designator R?, comment 2.49M
RES SMD 2.49M OHM 1% 1/10W 0603; Part Number: RES-00964; Manufacturer: Vishay Dale; Manufacturer PN: CRCW06032M49FKEA; Resistance: 2.49M; Tolerance: ±1%; Power Rating: 1/10W; Cost: 0.1
footprint chip_0603
pins: 1, 2

## RES-00965
designator R?, comment 3.16M
RES SMD 3.16M OHM 1% 1/10W 0603; Part Number: RES-00965; Manufacturer: Vishay Dale; Manufacturer PN: CRCW06033M16FKEA; Resistance: 3.16M; Tolerance: ±1%; Power Rating: 1/10W; Cost: 0.1
footprint chip_0603
pins: 1, 2

## RES-00966
designator R?, comment 47
RES SMD 47 OHM 1% 1/10W 0603; Part Number: RES-00966; Manufacturer: Vishay Dale; Manufacturer PN: CRCW060347R0FKEA; Resistance: 47; Tolerance: ±1%; Power Rating: 1/10W; Cost: 0.1
footprint chip_0603
pins: 1, 2

## RES-00967
designator R?, comment 2.7k
RES SMD 2.7K OHM 1% 1/10W 0603; Part Number: RES-00967; Manufacturer: Vishay Dale; Manufacturer PN: CRCW06032K70FKEA; Resistance: 2.7k; Tolerance: ±1%; Power Rating: 1/10W; Cost: 0.1
footprint chip_0603
pins: 1, 2

## RES-00968
designator R?, comment 88.7
RES SMD 88.7 OHM 1% 1/10W 0603; Part Number: RES-00968; Manufacturer: Vishay Dale; Manufacturer PN: CRCW060388R7FKEA; Resistance: 88.7; Tolerance: ±1%; Power Rating: 1/10W; Cost: 0.1
footprint chip_0603
pins: 1, 2

## RES-00969
designator R?, comment 27.4k
RES SMD 27.4K OHM 1% 1/10W 0603; Part Number: RES-00969; Manufacturer: Vishay Dale; Manufacturer PN: CRCW060327K4FKEA; Resistance: 27.4k; Tolerance: ±1%; Power Rating: 1/10W; Cost: 0.1
footprint chip_0603
pins: 1, 2

## RES-00970
designator R?, comment 301k
RES SMD 301K OHM 1% 1/10W 0603; Part Number: RES-00970; Manufacturer: Vishay Dale; Manufacturer PN: CRCW0603301KFKEA; Resistance: 301k; Tolerance: ±1%; Power Rating: 1/10W; Cost: 0.1
footprint chip_0603
pins: 1, 2

## RES-00971
designator R?, comment 10.5k
RES SMD 10.5K OHM 1% 1/10W 0603; Part Number: RES-00971; Manufacturer: Vishay Dale; Manufacturer PN: CRCW060310K5FKEA; Resistance: 10.5k; Tolerance: ±1%; Power Rating: 1/10W; Cost: 0.1
footprint chip_0603
pins: 1, 2

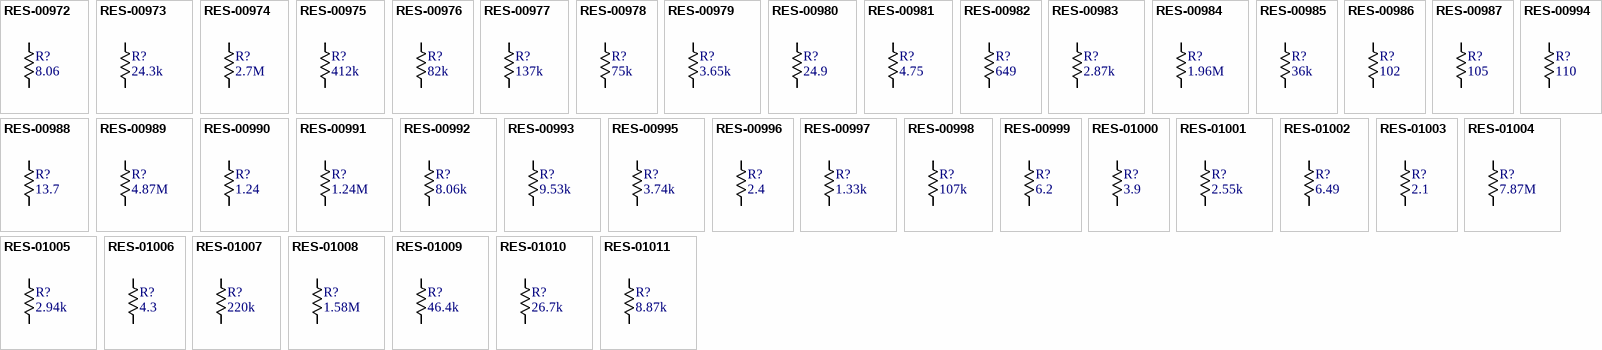
[diagram p26: symbols RES-00972 to RES-01011]

## RES-00972
designator R?, comment 8.06
RES SMD 8.06 OHM 1% 1/10W 0603; Part Number: RES-00972; Manufacturer: Vishay Dale; Manufacturer PN: CRCW06038R06FKEA; Resistance: 8.06; Tolerance: ±1%; Power Rating: 1/10W; Cost: 0.1
footprint chip_0603
pins: 1, 2

## RES-00973
designator R?, comment 24.3k
RES SMD 24.3K OHM 1% 1/10W 0603; Part Number: RES-00973; Manufacturer: Vishay Dale; Manufacturer PN: CRCW060324K3FKEA; Resistance: 24.3k; Tolerance: ±1%; Power Rating: 1/10W; Cost: 0.1
footprint chip_0603
pins: 1, 2

## RES-00974
designator R?, comment 2.7M
RES SMD 2.7M OHM 1% 1/10W 0603; Part Number: RES-00974; Manufacturer: Vishay Dale; Manufacturer PN: CRCW06032M70FKEA; Resistance: 2.7M; Tolerance: ±1%; Power Rating: 1/10W; Cost: 0.1
footprint chip_0603
pins: 1, 2

## RES-00975
designator R?, comment 412k
RES SMD 412K OHM 1% 1/10W 0603; Part Number: RES-00975; Manufacturer: Vishay Dale; Manufacturer PN: CRCW0603412KFKEA; Resistance: 412k; Tolerance: ±1%; Power Rating: 1/10W; Cost: 0.1
footprint chip_0603
pins: 1, 2

## RES-00976
designator R?, comment 82k
RES SMD 82K OHM 1% 1/10W 0603; Part Number: RES-00976; Manufacturer: Vishay Dale; Manufacturer PN: CRCW060382K0FKEA; Resistance: 82k; Tolerance: ±1%; Power Rating: 1/10W; Cost: 0.1
footprint chip_0603
pins: 1, 2

## RES-00977
designator R?, comment 137k
RES SMD 137K OHM 1% 1/10W 0603; Part Number: RES-00977; Manufacturer: Vishay Dale; Manufacturer PN: CRCW0603137KFKEA; Resistance: 137k; Tolerance: ±1%; Power Rating: 1/10W; Cost: 0.1
footprint chip_0603
pins: 1, 2

## RES-00978
designator R?, comment 75k
RES SMD 75K OHM 1% 1/10W 0603; Part Number: RES-00978; Manufacturer: Vishay Dale; Manufacturer PN: CRCW060375K0FKEB; Resistance: 75k; Tolerance: ±1%; Power Rating: 1/10W; Cost: 0.1
footprint chip_0603
pins: 1, 2

## RES-00979
designator R?, comment 3.65k
RES SMD 3.65K OHM 1% 1/10W 0603; Part Number: RES-00979; Manufacturer: Vishay Dale; Manufacturer PN: CRCW06033K65FKEA; Resistance: 3.65k; Tolerance: ±1%; Power Rating: 1/10W; Cost: 0.1
footprint chip_0603
pins: 1, 2

## RES-00980
designator R?, comment 24.9
RES SMD 24.9 OHM 1% 1/10W 0603; Part Number: RES-00980; Manufacturer: Vishay Dale; Manufacturer PN: CRCW060324R9FKEA; Resistance: 24.9; Tolerance: ±1%; Power Rating: 1/10W; Cost: 0.1
footprint chip_0603
pins: 1, 2

## RES-00981
designator R?, comment 4.75
RES SMD 4.75 OHM 1% 1/10W 0603; Part Number: RES-00981; Manufacturer: Vishay Dale; Manufacturer PN: CRCW06034R75FKEA; Resistance: 4.75; Tolerance: ±1%; Power Rating: 1/10W; Cost: 0.1
footprint chip_0603
pins: 1, 2

## RES-00982
designator R?, comment 649
RES SMD 649 OHM 1% 1/10W 0603; Part Number: RES-00982; Manufacturer: Vishay Dale; Manufacturer PN: CRCW0603649RFKEA; Resistance: 649; Tolerance: ±1%; Power Rating: 1/10W; Cost: 0.1
footprint chip_0603
pins: 1, 2

## RES-00983
designator R?, comment 2.87k
RES SMD 2.87K OHM 1% 1/10W 0603; Part Number: RES-00983; Manufacturer: Vishay Dale; Manufacturer PN: CRCW06032K87FKEA; Resistance: 2.87k; Tolerance: ±1%; Power Rating: 1/10W; Cost: 0.1
footprint chip_0603
pins: 1, 2

## RES-00984
designator R?, comment 1.96M
RES SMD 1.96M OHM 1% 1/10W 0603; Part Number: RES-00984; Manufacturer: Vishay Dale; Manufacturer PN: CRCW06031M96FKEA; Resistance: 1.96M; Tolerance: ±1%; Power Rating: 1/10W; Cost: 0.1
footprint chip_0603
pins: 1, 2

## RES-00985
designator R?, comment 36k
RES SMD 36K OHM 1% 1/10W 0603; Part Number: RES-00985; Manufacturer: Vishay Dale; Manufacturer PN: CRCW060336K0FKEA; Resistance: 36k; Tolerance: ±1%; Power Rating: 1/10W; Cost: 0.1
footprint chip_0603
pins: 1, 2

## RES-00986
designator R?, comment 102
RES SMD 102 OHM 1% 1/10W 0603; Part Number: RES-00986; Manufacturer: Vishay Dale; Manufacturer PN: CRCW0603102RFKEA; Resistance: 102; Tolerance: ±1%; Power Rating: 1/10W; Cost: 0.1
footprint chip_0603
pins: 1, 2

## RES-00987
designator R?, comment 105
RES SMD 105 OHM 1% 1/10W 0603; Part Number: RES-00987; Manufacturer: Vishay Dale; Manufacturer PN: CRCW0603105RFKEA; Resistance: 105; Tolerance: ±1%; Power Rating: 1/10W; Cost: 0.1
footprint chip_0603
pins: 1, 2

## RES-00988
designator R?, comment 13.7
RES SMD 13.7 OHM 1% 1/10W 0603; Part Number: RES-00988; Manufacturer: Vishay Dale; Manufacturer PN: CRCW060313R7FKEA; Resistance: 13.7; Tolerance: ±1%; Power Rating: 1/10W; Cost: 0.1
footprint chip_0603
pins: 1, 2

## RES-00989
designator R?, comment 4.87M
RES SMD 4.87M OHM 1% 1/10W 0603; Part Number: RES-00989; Manufacturer: Vishay Dale; Manufacturer PN: CRCW06034M87FKEA; Resistance: 4.87M; Tolerance: ±1%; Power Rating: 1/10W; Cost: 0.1
footprint chip_0603
pins: 1, 2

## RES-00990
designator R?, comment 1.24
RES SMD 1.24 OHM 1% 1/10W 0603; Part Number: RES-00990; Manufacturer: Vishay Dale; Manufacturer PN: CRCW06031R24FKEA; Resistance: 1.24; Tolerance: ±1%; Power Rating: 1/10W; Cost: 0.1
footprint chip_0603
pins: 1, 2

## RES-00991
designator R?, comment 1.24M
RES SMD 1.24M OHM 1% 1/10W 0603; Part Number: RES-00991; Manufacturer: Vishay Dale; Manufacturer PN: CRCW06031M24FKEA; Resistance: 1.24M; Tolerance: ±1%; Power Rating: 1/10W; Cost: 0.1
footprint chip_0603
pins: 1, 2

## RES-00992
designator R?, comment 8.06k
RES SMD 8.06K OHM 1% 1/10W 0603; Part Number: RES-00992; Manufacturer: Vishay Dale; Manufacturer PN: CRCW06038K06FKEA; Resistance: 8.06k; Tolerance: ±1%; Power Rating: 1/10W; Cost: 0.1
footprint chip_0603
pins: 1, 2

## RES-00993
designator R?, comment 9.53k
RES SMD 9.53K OHM 1% 1/10W 0603; Part Number: RES-00993; Manufacturer: Vishay Dale; Manufacturer PN: CRCW06039K53FKEA; Resistance: 9.53k; Tolerance: ±1%; Power Rating: 1/10W; Cost: 0.1
footprint chip_0603
pins: 1, 2

## RES-00994
designator R?, comment 110
RES SMD 110 OHM 1% 1/10W 0603; Part Number: RES-00994; Manufacturer: Vishay Dale; Manufacturer PN: CRCW0603110RFKEA; Resistance: 110; Tolerance: ±1%; Power Rating: 1/10W; Cost: 0.1
footprint chip_0603
pins: 1, 2

## RES-00995
designator R?, comment 3.74k
RES SMD 3.74K OHM 1% 1/10W 0603; Part Number: RES-00995; Manufacturer: Vishay Dale; Manufacturer PN: CRCW06033K74FKEA; Resistance: 3.74k; Tolerance: ±1%; Power Rating: 1/10W; Cost: 0.1
footprint chip_0603
pins: 1, 2

## RES-00996
designator R?, comment 2.4
RES SMD 2.4 OHM 1% 1/10W 0603; Part Number: RES-00996; Manufacturer: Vishay Dale; Manufacturer PN: CRCW06032R40FKEA; Resistance: 2.4; Tolerance: ±1%; Power Rating: 1/10W; Cost: 0.1
footprint chip_0603
pins: 1, 2

## RES-00997
designator R?, comment 1.33k
RES SMD 1.33K OHM 1% 1/10W 0603; Part Number: RES-00997; Manufacturer: Vishay Dale; Manufacturer PN: CRCW06031K33FKEA; Resistance: 1.33k; Tolerance: ±1%; Power Rating: 1/10W; Cost: 0.1
footprint chip_0603
pins: 1, 2

## RES-00998
designator R?, comment 107k
RES SMD 107K OHM 1% 1/10W 0603; Part Number: RES-00998; Manufacturer: Vishay Dale; Manufacturer PN: CRCW0603107KFKEA; Resistance: 107k; Tolerance: ±1%; Power Rating: 1/10W; Cost: 0.1
footprint chip_0603
pins: 1, 2

## RES-00999
designator R?, comment 6.2
RES SMD 6.2 OHM 1% 1/10W 0603; Part Number: RES-00999; Manufacturer: Vishay Dale; Manufacturer PN: CRCW06036R20FKEA; Resistance: 6.2; Tolerance: ±1%; Power Rating: 1/10W; Cost: 0.1
footprint chip_0603
pins: 1, 2

## RES-01000
designator R?, comment 3.9
RES SMD 3.9 OHM 1% 1/10W 0603; Part Number: RES-01000; Manufacturer: Vishay Dale; Manufacturer PN: CRCW06033R90FKEA; Resistance: 3.9; Tolerance: ±1%; Power Rating: 1/10W; Cost: 0.1
footprint chip_0603
pins: 1, 2

## RES-01001
designator R?, comment 2.55k
RES SMD 2.55K OHM 1% 1/10W 0603; Part Number: RES-01001; Manufacturer: Vishay Dale; Manufacturer PN: CRCW06032K55FKEA; Resistance: 2.55k; Tolerance: ±1%; Power Rating: 1/10W; Cost: 0.1
footprint chip_0603
pins: 1, 2

## RES-01002
designator R?, comment 6.49
RES SMD 6.49 OHM 1% 1/10W 0603; Part Number: RES-01002; Manufacturer: Vishay Dale; Manufacturer PN: CRCW06036R49FKEA; Resistance: 6.49; Tolerance: ±1%; Power Rating: 1/10W; Cost: 0.1
footprint chip_0603
pins: 1, 2

## RES-01003
designator R?, comment 2.1
RES SMD 2.1 OHM 1% 1/10W 0603; Part Number: RES-01003; Manufacturer: Vishay Dale; Manufacturer PN: CRCW06032R10FKEA; Resistance: 2.1; Tolerance: ±1%; Power Rating: 1/10W; Cost: 0.1
footprint chip_0603
pins: 1, 2

## RES-01004
designator R?, comment 7.87M
RES SMD 7.87M OHM 1% 1/10W 0603; Part Number: RES-01004; Manufacturer: Vishay Dale; Manufacturer PN: CRCW06037M87FKEA; Resistance: 7.87M; Tolerance: ±1%; Power Rating: 1/10W; Cost: 0.1
footprint chip_0603
pins: 1, 2

## RES-01005
designator R?, comment 2.94k
RES SMD 2.94K OHM 1% 1/10W 0603; Part Number: RES-01005; Manufacturer: Vishay Dale; Manufacturer PN: CRCW06032K94FKEA; Resistance: 2.94k; Tolerance: ±1%; Power Rating: 1/10W; Cost: 0.1
footprint chip_0603
pins: 1, 2

## RES-01006
designator R?, comment 4.3
RES SMD 4.3 OHM 1% 1/10W 0603; Part Number: RES-01006; Manufacturer: Vishay Dale; Manufacturer PN: CRCW06034R30FKEA; Resistance: 4.3; Tolerance: ±1%; Power Rating: 1/10W; Cost: 0.1
footprint chip_0603
pins: 1, 2

## RES-01007
designator R?, comment 220k
RES SMD 220K OHM 1% 1/10W 0603; Part Number: RES-01007; Manufacturer: Vishay Dale; Manufacturer PN: CRCW0603220KFKEA; Resistance: 220k; Tolerance: ±1%; Power Rating: 1/10W; Cost: 0.1
footprint chip_0603
pins: 1, 2

## RES-01008
designator R?, comment 1.58M
RES SMD 1.58M OHM 1% 1/10W 0603; Part Number: RES-01008; Manufacturer: Vishay Dale; Manufacturer PN: CRCW06031M58FKEA; Resistance: 1.58M; Tolerance: ±1%; Power Rating: 1/10W; Cost: 0.1
footprint chip_0603
pins: 1, 2

## RES-01009
designator R?, comment 46.4k
RES SMD 46.4K OHM 1% 1/10W 0603; Part Number: RES-01009; Manufacturer: Vishay Dale; Manufacturer PN: CRCW060346K4FKEA; Resistance: 46.4k; Tolerance: ±1%; Power Rating: 1/10W; Cost: 0.1
footprint chip_0603
pins: 1, 2

## RES-01010
designator R?, comment 26.7k
RES SMD 26.7K OHM 1% 1/10W 0603; Part Number: RES-01010; Manufacturer: Vishay Dale; Manufacturer PN: CRCW060326K7FKEA; Resistance: 26.7k; Tolerance: ±1%; Power Rating: 1/10W; Cost: 0.1
footprint chip_0603
pins: 1, 2

## RES-01011
designator R?, comment 8.87k
RES SMD 8.87K OHM 1% 1/10W 0603; Part Number: RES-01011; Manufacturer: Vishay Dale; Manufacturer PN: CRCW06038K87FKEA; Resistance: 8.87k; Tolerance: ±1%; Power Rating: 1/10W; Cost: 0.1
footprint chip_0603
pins: 1, 2

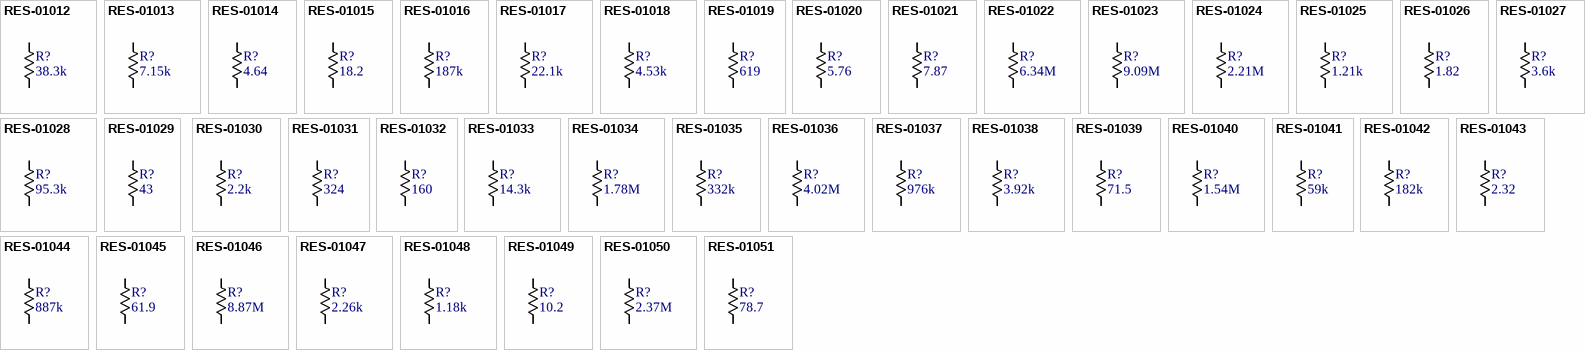
[diagram p27: symbols RES-01012 to RES-01051]

## RES-01012
designator R?, comment 38.3k
RES SMD 38.3K OHM 1% 1/10W 0603; Part Number: RES-01012; Manufacturer: Vishay Dale; Manufacturer PN: CRCW060338K3FKEA; Resistance: 38.3k; Tolerance: ±1%; Power Rating: 1/10W; Cost: 0.1
footprint chip_0603
pins: 1, 2

## RES-01013
designator R?, comment 7.15k
RES SMD 7.15K OHM 1% 1/10W 0603; Part Number: RES-01013; Manufacturer: Vishay Dale; Manufacturer PN: CRCW06037K15FKEA; Resistance: 7.15k; Tolerance: ±1%; Power Rating: 1/10W; Cost: 0.1
footprint chip_0603
pins: 1, 2

## RES-01014
designator R?, comment 4.64
RES SMD 4.64 OHM 1% 1/10W 0603; Part Number: RES-01014; Manufacturer: Vishay Dale; Manufacturer PN: CRCW06034R64FKEA; Resistance: 4.64; Tolerance: ±1%; Power Rating: 1/10W; Cost: 0.1
footprint chip_0603
pins: 1, 2

## RES-01015
designator R?, comment 18.2
RES SMD 18.2 OHM 1% 1/10W 0603; Part Number: RES-01015; Manufacturer: Vishay Dale; Manufacturer PN: CRCW060318R2FKEA; Resistance: 18.2; Tolerance: ±1%; Power Rating: 1/10W; Cost: 0.1
footprint chip_0603
pins: 1, 2

## RES-01016
designator R?, comment 187k
RES SMD 187K OHM 1% 1/10W 0603; Part Number: RES-01016; Manufacturer: Vishay Dale; Manufacturer PN: CRCW0603187KFKEA; Resistance: 187k; Tolerance: ±1%; Power Rating: 1/10W; Cost: 0.1
footprint chip_0603
pins: 1, 2

## RES-01017
designator R?, comment 22.1k
RES SMD 22.1K OHM 1% 1/10W 0603; Part Number: RES-01017; Manufacturer: Vishay Dale; Manufacturer PN: CRCW060322K1FKEA; Resistance: 22.1k; Tolerance: ±1%; Power Rating: 1/10W; Cost: 0.1
footprint chip_0603
pins: 1, 2